# Altium footprint library LM4992 IC SMD-DIP Adapter.PcbLib: 1 footprints
Each footprint in its own frame and in the unit in brackets; x right, y up, seen from the top. Pads: shape width x height; smd on the part's side, far side on the other; paste and mask are expansions set on the pad; w line width, h text height; cw(c..) or ccw(c..) is an arc to the next point about the centre after c.
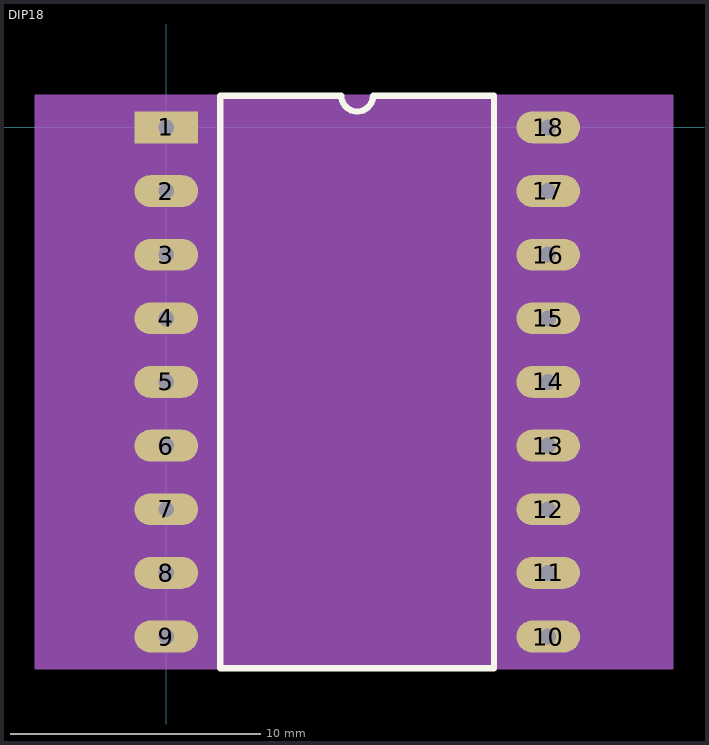
[diagram p0: the footprint, top view; thin cyan lines are the x and y axes]

## DIP18 [mil]
pads (18):
  rect 100x50 hole 25: 1(0,0)
  oval 100x50 hole 25: 2(0,-100) 3(0,-200) 4(0,-300) 5(0,-400) 6(0,-500) 7(0,-600) 8(0,-700) 9(0,-800) 10(600,-800) 11(600,-700) 12(600,-600) 13(600,-500) 14(600,-400) 15(600,-300) 16(600,-200) 17(600,-100) 18(600,0)
Top Overlay:
  lines w10: 85,-850 515,-850 515,50 325,50 cw(c300,50) 275,50 85,50 85,-850
Mechanical 1:
  rectangle: -205,-850 795,50
  lines w3.94: -205,-850 -205,50 795,50 795,-850 -205,-850